# EAGLE library part ATTINY45 (library AVR_attinys)
http://www.atmel.com/images/atmel-2586-avr-8-bit-microcontroller-attiny25-attiny45-attiny85_datasheet.pdf
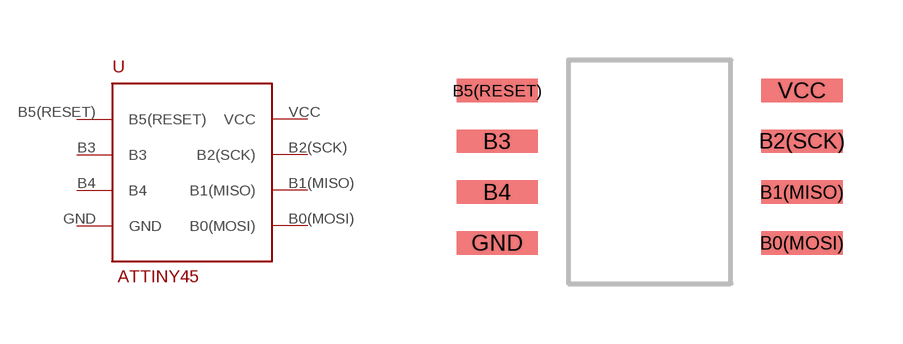
[diagram p0: symbol with the pads of ATTINY45; footprint ATTINY45]

Designator prefix -

## ATTINY45  [ATTINY45]
B0(MOSI)  B0(MOSI)
B1(MISO)  B1(MISO)
B2(SCK)  B2(SCK)
B3  B3
B4  B4
B5(RESET)  B5(RESET)
GND  GND
VCC  VCC

## Footprint ATTINY45 (pad centres in mm)
smd 2.032 x 0.584: B0(MOSI) 3.81,-2.032; B1(MISO) 3.81,-0.762; B2(SCK) 3.81,0.508; B3 -3.81,0.508; B4 -3.81,-0.762; B5(RESET) -3.81,1.778; GND -3.81,-2.032; VCC 3.81,1.778